# EAGLE library part RJ-6PIN (library Stewart)
RJ 6pin Stewart SS65600-005G
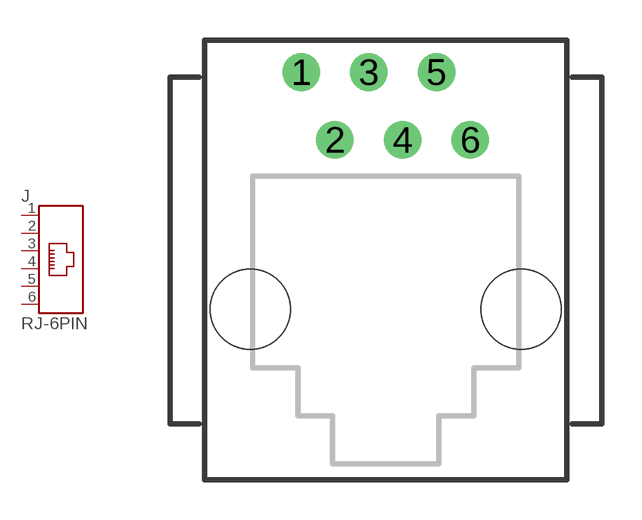
[diagram p1: symbol with the pads of RJ-6PIN; footprint RJ-6PIN]

Designator prefix J

## RJ-6PIN  [RJ-6PIN]
1  1  pas
2  2  pas
3  3  pas
4  4  pas
5  5  pas
6  6  pas

## Footprint RJ-6PIN (pad centres in mm)
RJ 6pin Stewart SS65600-005G
drill 0.9 pad 1.4: 1 -3.175,8.89; 2 -1.905,6.35; 3 -0.635,8.89; 4 0.635,6.35; 5 1.905,8.89; 6 3.175,6.35
hole 3 at 5.08,0
hole 3 at -5.08,0